# Altium schematic symbol library Photodiodes TH.SchLib: 1 symbol
Pins are listed as number, name and electrical type; pins without a type are passive.

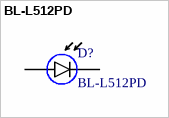
[diagram p0: symbol BL-L512PD]

## BL-L512PD
designator D?
940nm IR Photodiode; Forward voltage drop: 0.4V; Power dissipation: 0.14W
footprint LED TH 5mm (Through hole 5mm LED)
pins: A, K